# EAGLE library part MOSFET-N-DUAL (library TotU)
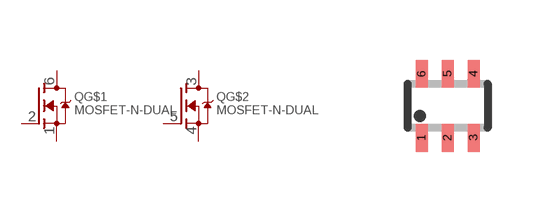
[diagram p3: symbol with the pads of SOT-363; footprint SOT-363]

Designator prefix Q; gates G$1=MOSFET-N G$2=MOSFET-N

## MOSFET-N-DUAL  [SOT-363]
1  G$1:S
2  G$1:G
3  G$2:D
4  G$2:S
5  G$2:G
6  G$1:D

## Footprint SOT-363 (pad centres in mm)
smd 0.3 x 0.7: 1 -0.65,-0.8; 2 0,-0.8; 3 0.65,-0.8; 4 0.65,0.8; 5 0,0.8; 6 -0.65,0.8